# Altium schematic symbol library STN1NK60Z.Schlib: 1 symbol
Pins are listed as number, name and electrical type; pins without a type are passive.

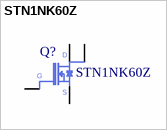
[diagram p0: symbol STN1NK60Z]

## STN1NK60Z
designator Q?
pins: 1 G, 2 D, 3 S, 4 D